# EAGLE library part SW-SWT-2 (library Namenlos)
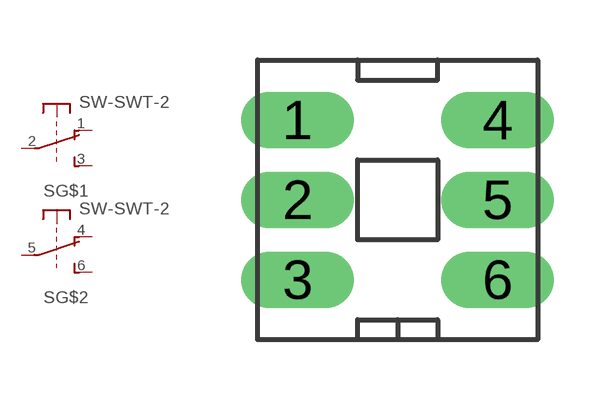
[diagram p2: symbol with the pads of SWT-2; footprint SWT-2]

Designator prefix S; gates G$1=SWT-02 G$2=SWT-02

## SW-SWT-2  [SWT-2]
1  G$1:1  pas
2  G$1:2  pas
3  G$1:3  pas
4  G$2:1  pas
5  G$2:2  pas
6  G$2:3  pas

## Footprint SWT-2 (pad centres in mm)
drill 0.9 long: 1 -2.497,2; 2 -2.497,0; 3 -2.497,-2; 4 2.503,2; 5 2.503,0; 6 2.503,-2